# Altium footprint library LD_PCBLib.PcbLib: 1 footprints
Each footprint in its own frame and in the unit in brackets; x right, y up, seen from the top. Pads: shape width x height; smd on the part's side, far side on the other; paste and mask are expansions set on the pad; w line width, h text height; cw(c..) or ccw(c..) is an arc to the next point about the centre after c.
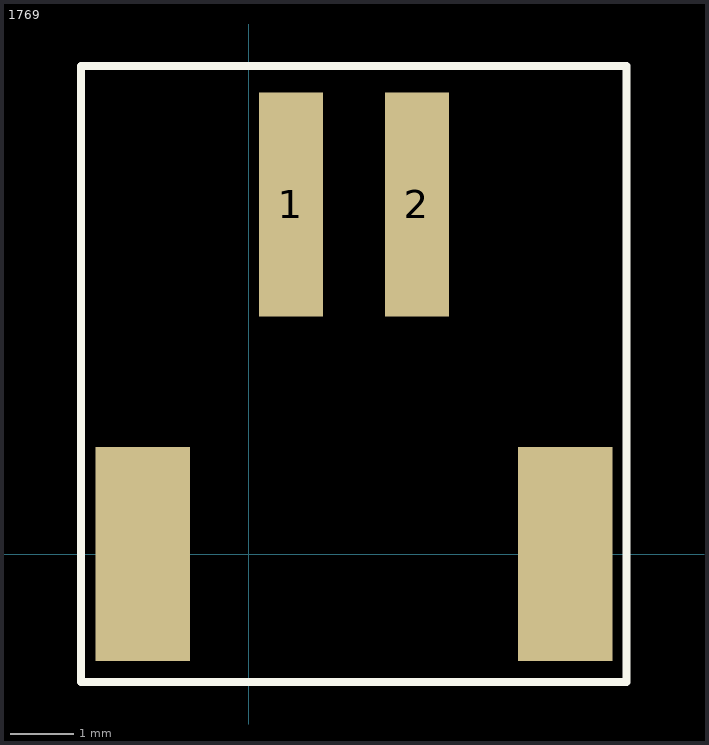
[diagram p0: the footprint, top view; thin cyan lines are the x and y axes]

## 1769 [mm] "Adafruit Accessories JST-PH 2-pin SMT Right Angle Connect"
height 5.5
pads (4):
  rect 1.016x3.556 all layers, no hole: 1(0.667,5.55) 2(2.667,5.55)
  rect 1.5x3.4 all layers, no hole: ""(-1.681,0) ""(5.02,0)
Top Overlay:
  lines w0.127: 5.969,-2.032 -2.667,-2.032 -2.667,7.747 5.969,7.747 ; 5.994,-2.032 5.994,7.747